# EAGLE library part MCP23S08-E/SO (library Zach)
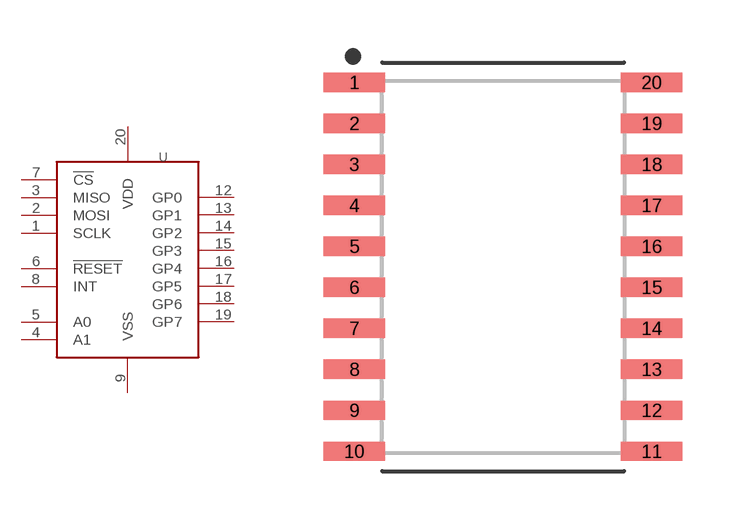
[diagram p5: symbol with the pads of MCP23S08-E/SO; footprint MCP23S08-E/SO]

Designator prefix U

## MCP23S08-E/SO  [MCP23S08-E/SO]
1  SCLK
2  MOSI
3  MISO
4  A1
5  A0
6  !RESET
7  !CS
8  INT
9  VSS
12  GP0
13  GP1
14  GP2
15  GP3
16  GP4
17  GP5
18  GP6
19  GP7
20  VDD

## Footprint MCP23S08-E/SO (pad centres in mm)
20-SOIC, 1.27 mm pitch, 10.30 mm span, 11.55 X 7.50 X 2.65 mm body 20-pin SOIC package with 1.27 mm pitch, 10.30 mm span with body size 11.55 X 7.50 X 2.65 mm
smd 1.901 x 0.599: 1 -4.605,5.715; 2 -4.605,4.445; 3 -4.605,3.175; 4 -4.605,1.905; 5 -4.605,0.635; 6 -4.605,-0.635; 7 -4.605,-1.905; 8 -4.605,-3.175; 9 -4.605,-4.445; 10 -4.605,-5.715; 11 4.605,-5.715; 12 4.605,-4.445; 13 4.605,-3.175; 14 4.605,-1.905; 15 4.605,-0.635; 16 4.605,0.635; 17 4.605,1.905; 18 4.605,3.175; 19 4.605,4.445; 20 4.605,5.715